# Altium footprint library Common-Parts-Library.PcbLib: 530 footprints (part 12 of 34)
Each footprint in its own frame and in the unit in brackets; x right, y up, seen from the top. Pads: shape width x height; smd on the part's side, far side on the other; paste and mask are expansions set on the pad; w line width, h text height; cw(c..) or ccw(c..) is an arc to the next point about the centre after c.
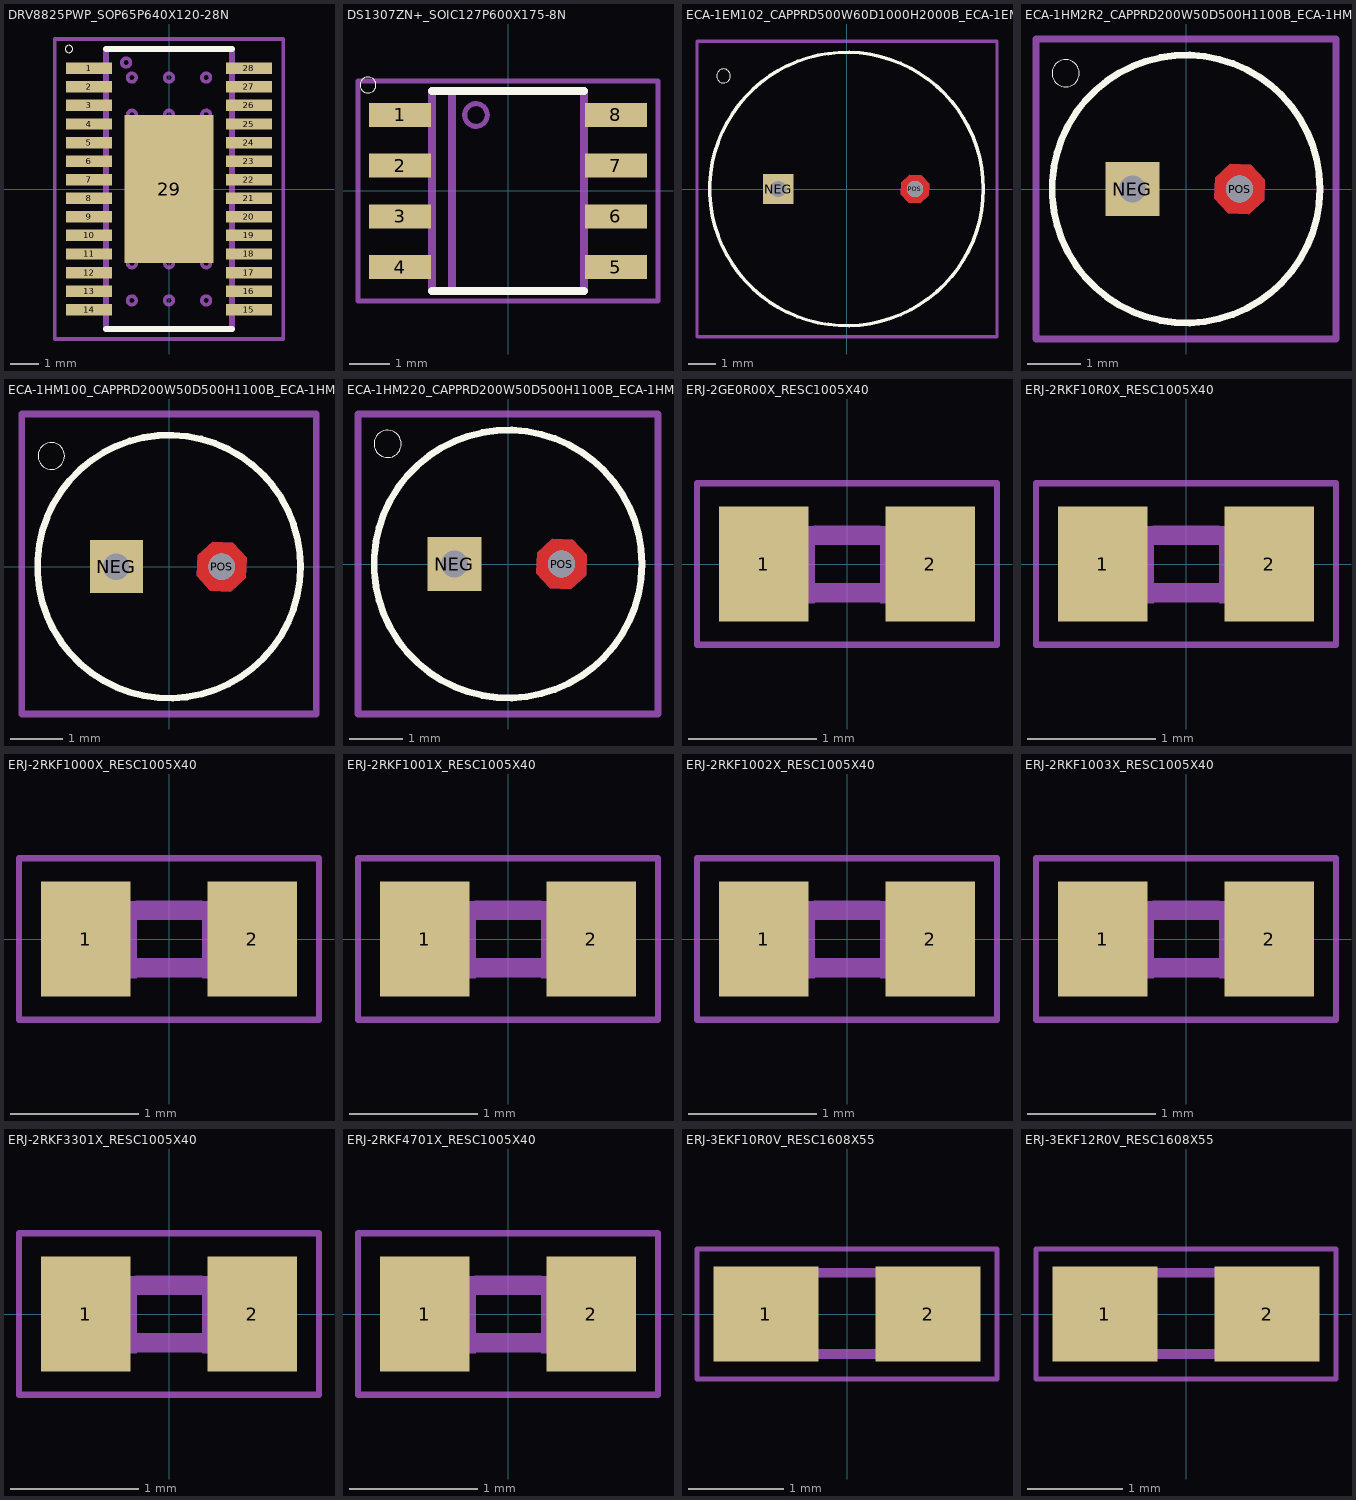
[diagram p11: the footprints below, top view; thin cyan lines are the x and y axes]

## DRV8825PWP_SOP65P640X120-28N [mm]
pads (29):
  rect 1.6x0.4 smd: 1(-2.8,4.225) 2(-2.8,3.575) 3(-2.8,2.925) 4(-2.8,2.275) 5(-2.8,1.625) 6(-2.8,0.975) 7(-2.8,0.325) 8(-2.8,-0.325) 9(-2.8,-0.975) 10(-2.8,-1.625) 11(-2.8,-2.275) 12(-2.8,-2.925) 13(-2.8,-3.575) 14(-2.8,-4.225) 15(2.8,-4.225) 16(2.8,-3.575) 17(2.8,-2.925) 18(2.8,-2.275) 19(2.8,-1.625) 20(2.8,-0.975) 21(2.8,-0.325) 22(2.8,0.325) 23(2.8,0.975) 24(2.8,1.625) 25(2.8,2.275) 26(2.8,2.925) 27(2.8,3.575) 28(2.8,4.225)
  rect 3.1x5.18 smd: 29(0,0)
Top Overlay:
  circle w0: c-3.5,4.9 r0.127
  lines w0.203: -2.2,-4.9 2.2,-4.9 ; -2.2,4.9 2.2,4.9
Top Solder:
  region: -1.704,4.85 1.7,4.85 1.7,-4.862 -1.704,-4.862
Mechanical 1:
  circle w0.127: c1.3,3.9 r0.15
  circle w0.127: c0,3.9 r0.15
  circle w0.127: c-1.3,3.9 r0.15
  circle w0.127: c1.3,-3.9 r0.15
  circle w0.127: c0,-3.9 r0.15
  circle w0.127: c-1.3,-3.9 r0.15
  circle w0.127: c-1.3,-2.6 r0.15
  circle w0.127: c0,-2.6 r0.15
  circle w0.127: c1.3,-2.6 r0.15
  circle w0.127: c1.3,-1.3 r0.15
  circle w0.127: c0,-1.3 r0.15
  circle w0.127: c-1.3,-1.3 r0.15
  circle w0.127: c-1.3,2.6 r0.15
  circle w0.127: c0,2.6 r0.15
  circle w0.127: c1.3,2.6 r0.15
  circle w0.127: c1.3,1.3 r0.15
  circle w0.127: c0,1.3 r0.15
  circle w0.127: c-1.3,1.3 r0.15
  circle w0.127: c-1.3,0 r0.15
  circle w0.127: c1.3,0 r0.15
  circle w0.127: c0,0 r0.15
  circle w0.127: c-1.5,4.425 r0.15
  region: 2.241,4.086 2.241,4.377 3.298,4.377 3.298,4.086
  region: 2.235,3.43 2.235,3.725 3.3,3.725 3.3,3.43
  region: 2.235,2.78 2.235,3.075 3.3,3.075 3.3,2.78
  region: 2.234,2.129 2.234,2.424 3.301,2.424 3.301,2.129
  region: 2.231,1.476 2.231,1.774 3.301,1.774 3.301,1.476
  region: 2.233,0.828 2.233,1.123 3.302,1.123 3.302,0.828
  region: 2.232,0.177 2.232,0.472 3.303,0.472 3.303,0.177
  region: 2.233,-0.472 2.233,-0.181 3.306,-0.181 3.306,-0.472
  region: 2.231,-1.124 2.231,-0.83 3.305,-0.83 3.305,-1.124
  region: 2.231,-1.774 2.231,-1.481 3.306,-1.481 3.306,-1.774
  region: 2.23,-2.425 2.23,-2.131 3.306,-2.131 3.306,-2.425
  region: 2.229,-3.076 2.229,-2.78 3.305,-2.78 3.305,-3.076
  region: 2.23,-3.725 2.23,-3.427 3.302,-3.427 3.302,-3.725
  region: 2.226,-4.379 2.226,-4.088 3.313,-4.088 3.313,-4.379
  region: -2.228,-4.077 -2.228,-4.381 -3.306,-4.381 -3.306,-4.077
  region: -2.229,-3.426 -2.229,-3.73 -3.305,-3.73 -3.305,-3.426
  region: -2.23,-2.775 -2.23,-3.077 -3.302,-3.077 -3.302,-2.775
  region: -2.23,-2.125 -2.23,-2.431 -3.306,-2.431 -3.306,-2.125
  region: -2.231,-1.474 -2.231,-1.782 -3.307,-1.782 -3.307,-1.474
  region: -2.232,-0.823 -2.232,-1.131 -3.306,-1.131 -3.306,-0.823
  region: -2.232,-0.173 -2.232,-0.478 -3.303,-0.478 -3.303,-0.173
  region: -2.231,0.476 -2.231,0.174 -3.301,0.174 -3.301,0.476
  region: -2.233,1.128 -2.233,0.823 -3.302,0.823 -3.302,1.128
  region: -2.234,1.779 -2.234,1.473 -3.302,1.473 -3.302,1.779
  region: -2.235,2.43 -2.235,2.124 -3.301,2.124 -3.301,2.43
  region: -2.236,3.081 -2.236,2.774 -3.301,2.774 -3.301,3.081
  region: -2.241,3.736 -2.241,3.425 -3.3,3.425 -3.3,3.736
  region: -2.241,4.386 -2.241,4.076 -3.299,4.076 -3.299,4.386
  lines w0.127: -4,-5.25 -4,5.25 4,5.25 4,-5.25 -4,-5.25
  lines w0.203: -2.2,-4.9 -2.2,4.9 ; 2.2,-4.9 2.2,4.9

## DS1307ZN+_SOIC127P600X175-8N [mm]
pads (8):
  rect 1.55x0.6 smd: 1(-2.7,1.905) 2(-2.7,0.635) 3(-2.7,-0.635) 4(-2.7,-1.905) 5(2.7,-1.905) 6(2.7,-0.635) 7(2.7,0.635) 8(2.7,1.905)
Top Overlay:
  circle w0: c-3.5,2.65 r0.2
  lines w0.203: -1.9,-2.5 1.9,-2.5 ; -1.9,2.5 1.9,2.5
Mechanical 1:
  circle w0.127: c-0.8,1.9 r0.283
  region: 3.101,2.15 3.101,1.662 2.002,1.662 2.002,2.15
  region: 3.102,0.878 3.102,0.392 2.002,0.392 2.002,0.878
  region: 3.101,-0.391 3.101,-0.88 2,-0.88 2,-0.391
  region: 3.103,-1.663 3.103,-2.15 2,-2.15 2,-1.663
  region: -2,-1.66 -2,-2.156 -3.106,-2.156 -3.106,-1.66
  region: -2.001,-0.389 -2.001,-0.881 -3.101,-0.881 -3.101,-0.389
  region: -2.002,0.882 -2.002,0.388 -3.102,0.388 -3.102,0.882
  region: -2.007,2.157 -2.007,1.657 -3.103,1.657 -3.103,2.157
  lines w0.127: -3.75,-2.75 -3.75,2.75 3.75,2.75 3.75,-2.75 -3.75,-2.75
  lines w0.203: -1.9,-2.5 -1.9,2.5 ; -1.4,-2.5 -1.4,2.5 ; 1.9,-2.5 1.9,2.5

## ECA-1EM102_CAPPRD500W60D1000H2000B_ECA-1EM102(Primary) [mm]
pads (2):
  rect 1.108x1.108 hole 0.6: NEG(-2.5,0)
  round 0.6 hole 0.6: POS(2.5,0)
Top Layer:
  region: 3.021,0.189 2.734,0.502 2.311,0.521 1.998,0.234 1.979,-0.189 2.266,-0.502 2.689,-0.521 3.002,-0.234
Bottom Layer:
  region: 3.021,0.189 2.734,0.502 2.311,0.521 1.998,0.234 1.979,-0.189 2.266,-0.502 2.689,-0.521 3.002,-0.234
Top Overlay:
  circle w0: c-4.5,4.135 r0.254
  circle w0.127: c0,0 r5
Mechanical 1:
  lines w0.127: -5.47,-5.4 5.5,-5.4 5.5,5.4 -5.47,5.4 -5.47,-5.4
Multi-Layer:
  region: 3.021,0.189 2.734,0.502 2.311,0.521 1.998,0.234 1.979,-0.189 2.266,-0.502 2.689,-0.521 3.002,-0.234

## ECA-1HM2R2_CAPPRD200W50D500H1100B_ECA-1HM2R2(Primary) [mm]
pads (2):
  rect 1.008x1.008 hole 0.5: NEG(-1,0)
  round 0.5 hole 0.5: POS(1,0)
Top Layer:
  region: 1.474,0.172 1.213,0.457 0.828,0.474 0.543,0.213 0.526,-0.172 0.787,-0.457 1.172,-0.474 1.457,-0.213
Bottom Layer:
  region: 1.474,0.172 1.213,0.457 0.828,0.474 0.543,0.213 0.526,-0.172 0.787,-0.457 1.172,-0.474 1.457,-0.213
Top Overlay:
  circle w0: c-2.247,2.16 r0.254
  circle w0.127: c0,0 r2.5
Mechanical 1:
  lines w0.127: -2.8,-2.8 -2.8,2.8 2.8,2.8 2.8,-2.8 -2.8,-2.8
Multi-Layer:
  region: 1.474,0.172 1.213,0.457 0.828,0.474 0.543,0.213 0.526,-0.172 0.787,-0.457 1.172,-0.474 1.457,-0.213

## ECA-1HM100_CAPPRD200W50D500H1100B_ECA-1HM100(Primary) [mm]
pads (2):
  rect 1.008x1.008 hole 0.5: NEG(-1,0)
  round 0.5 hole 0.5: POS(1,0)
Top Layer:
  region: 1.474,0.172 1.213,0.457 0.828,0.474 0.543,0.213 0.526,-0.172 0.787,-0.457 1.172,-0.474 1.457,-0.213
Bottom Layer:
  region: 1.474,0.172 1.213,0.457 0.828,0.474 0.543,0.213 0.526,-0.172 0.787,-0.457 1.172,-0.474 1.457,-0.213
Top Overlay:
  circle w0: c-2.236,2.103 r0.254
  circle w0.127: c0,0 r2.5
Mechanical 1:
  lines w0.127: -2.8,-2.8 2.8,-2.8 2.8,2.9 -2.8,2.9 -2.8,-2.8
Multi-Layer:
  region: 1.474,0.172 1.213,0.457 0.828,0.474 0.543,0.213 0.526,-0.172 0.787,-0.457 1.172,-0.474 1.457,-0.213

## ECA-1HM220_CAPPRD200W50D500H1100B_ECA-1HM220(Primary) [mm]
pads (2):
  rect 1.008x1.008 hole 0.5: NEG(-1,0)
  round 0.5 hole 0.5: POS(1,0)
Top Layer:
  region: 1.474,0.172 1.213,0.457 0.828,0.474 0.543,0.213 0.526,-0.172 0.787,-0.457 1.172,-0.474 1.457,-0.213
Bottom Layer:
  region: 1.474,0.172 1.213,0.457 0.828,0.474 0.543,0.213 0.526,-0.172 0.787,-0.457 1.172,-0.474 1.457,-0.213
Top Overlay:
  circle w0: c-2.247,2.242 r0.254
  circle w0.127: c0,0 r2.5
Mechanical 1:
  lines w0.127: -2.8,-2.8 -2.8,2.8 2.8,2.8 2.8,-2.8 -2.8,-2.8
Multi-Layer:
  region: 1.474,0.172 1.213,0.457 0.828,0.474 0.543,0.213 0.526,-0.172 0.787,-0.457 1.172,-0.474 1.457,-0.213

## ERJ-2GE0R00X_RESC1005X40 [mm]
pads (2):
  rect 0.7x0.9 smd: 1(-0.65,0) 2(0.65,0)
Mechanical 1:
  region: 0.26,0.295 0.559,0.295 0.559,-0.306 0.26,-0.306
  region: -0.555,0.295 -0.254,0.295 -0.254,-0.306 -0.555,-0.306
  lines w0.051: -1.173,-0.633 -1.173,0.633 1.173,0.633 1.173,-0.633 -1.173,-0.633
  lines w0.152: -0.245,-0.224 0.245,-0.224 ; -0.245,0.224 0.245,0.224

## ERJ-2RKF10R0X_RESC1005X40 [mm]
pads (2):
  rect 0.7x0.9 smd: 1(-0.65,0) 2(0.65,0)
Mechanical 1:
  region: 0.259,0.295 0.559,0.295 0.559,-0.306 0.259,-0.306
  region: -0.555,0.295 -0.254,0.295 -0.254,-0.305 -0.555,-0.305
  lines w0.051: -1.173,-0.633 -1.173,0.633 1.173,0.633 1.173,-0.633 -1.173,-0.633
  lines w0.152: -0.245,-0.224 0.245,-0.224 ; -0.245,0.224 0.245,0.224

## ERJ-2RKF1000X_RESC1005X40 [mm]
pads (2):
  rect 0.7x0.9 smd: 1(-0.65,0) 2(0.65,0)
Mechanical 1:
  region: 0.259,0.295 0.559,0.295 0.559,-0.305 0.259,-0.305
  region: -0.556,0.295 -0.254,0.295 -0.254,-0.306 -0.556,-0.306
  lines w0.051: -1.173,-0.633 -1.173,0.633 1.173,0.633 1.173,-0.633 -1.173,-0.633
  lines w0.152: -0.245,-0.224 0.245,-0.224 ; -0.245,0.224 0.245,0.224

## ERJ-2RKF1001X_RESC1005X40 [mm]
pads (2):
  rect 0.7x0.9 smd: 1(-0.65,0) 2(0.65,0)
Mechanical 1:
  region: 0.259,0.295 0.559,0.295 0.559,-0.306 0.259,-0.306
  region: -0.555,0.295 -0.254,0.295 -0.254,-0.305 -0.555,-0.305
  lines w0.051: -1.173,-0.633 -1.173,0.633 1.173,0.633 1.173,-0.633 -1.173,-0.633
  lines w0.152: -0.245,-0.224 0.245,-0.224 ; -0.245,0.224 0.245,0.224

## ERJ-2RKF1002X_RESC1005X40 [mm]
pads (2):
  rect 0.7x0.9 smd: 1(-0.65,0) 2(0.65,0)
Mechanical 1:
  region: 0.26,0.295 0.559,0.295 0.559,-0.306 0.26,-0.306
  region: -0.556,0.295 -0.254,0.295 -0.254,-0.306 -0.556,-0.306
  lines w0.051: -1.173,-0.633 -1.173,0.633 1.173,0.633 1.173,-0.633 -1.173,-0.633
  lines w0.152: -0.245,-0.224 0.245,-0.224 ; -0.245,0.224 0.245,0.224

## ERJ-2RKF1003X_RESC1005X40 [mm]
pads (2):
  rect 0.7x0.9 smd: 1(-0.65,0) 2(0.65,0)
Mechanical 1:
  region: 0.259,0.295 0.559,0.295 0.559,-0.305 0.259,-0.305
  region: -0.555,0.295 -0.254,0.295 -0.254,-0.305 -0.555,-0.305
  lines w0.051: -1.173,-0.633 -1.173,0.633 1.173,0.633 1.173,-0.633 -1.173,-0.633
  lines w0.152: -0.245,-0.224 0.245,-0.224 ; -0.245,0.224 0.245,0.224

## ERJ-2RKF3301X_RESC1005X40 [mm]
pads (2):
  rect 0.7x0.9 smd: 1(-0.65,0) 2(0.65,0)
Mechanical 1:
  region: 0.259,0.295 0.559,0.295 0.559,-0.305 0.259,-0.305
  region: -0.555,0.295 -0.254,0.295 -0.254,-0.305 -0.555,-0.305
  lines w0.051: -1.173,-0.633 -1.173,0.633 1.173,0.633 1.173,-0.633 -1.173,-0.633
  lines w0.152: -0.245,-0.224 0.245,-0.224 ; -0.245,0.224 0.245,0.224

## ERJ-2RKF4701X_RESC1005X40 [mm]
pads (2):
  rect 0.7x0.9 smd: 1(-0.65,0) 2(0.65,0)
Mechanical 1:
  region: 0.259,0.295 0.559,0.295 0.559,-0.305 0.259,-0.305
  region: -0.554,0.295 -0.254,0.295 -0.254,-0.305 -0.554,-0.305
  lines w0.051: -1.173,-0.633 -1.173,0.633 1.173,0.633 1.173,-0.633 -1.173,-0.633
  lines w0.152: -0.245,-0.224 0.245,-0.224 ; -0.245,0.224 0.245,0.224

## ERJ-3EKF10R0V_RESC1608X55 [mm]
pads (2):
  rect 1.1x1 smd: 1(-0.85,0) 2(0.85,0)
Mechanical 1:
  region: 0.331,0.48 0.83,0.48 0.83,-0.471 0.331,-0.471
  region: -0.841,0.48 -0.338,0.48 -0.338,-0.472 -0.841,-0.472
  lines w0.051: -1.573,-0.683 -1.573,0.683 1.573,0.683 1.573,-0.683 -1.573,-0.683
  lines w0.102: -0.356,-0.419 0.356,-0.419 ; -0.356,0.432 0.356,0.432

## ERJ-3EKF12R0V_RESC1608X55 [mm]
pads (2):
  rect 1.1x1 smd: 1(-0.85,0) 2(0.85,0)
Mechanical 1:
  region: 0.331,0.48 0.83,0.48 0.83,-0.471 0.331,-0.471
  region: -0.839,0.48 -0.338,0.48 -0.338,-0.47 -0.839,-0.47
  lines w0.051: -1.573,-0.683 -1.573,0.683 1.573,0.683 1.573,-0.683 -1.573,-0.683
  lines w0.102: -0.356,-0.419 0.356,-0.419 ; -0.356,0.432 0.356,0.432